# EAGLE library part MCV12 (library J-HDR3.5mm)
MCV1,5&12-G-3,5 [PHOENIX CONTACT,1843703] CONN HEADER SHROUDED 12POS 3.5MM MCVR1,5&12-ST-3,5 [PHOENIX CONTACT,1863259] CONN PLUG 12POS SCREW 3.5MM
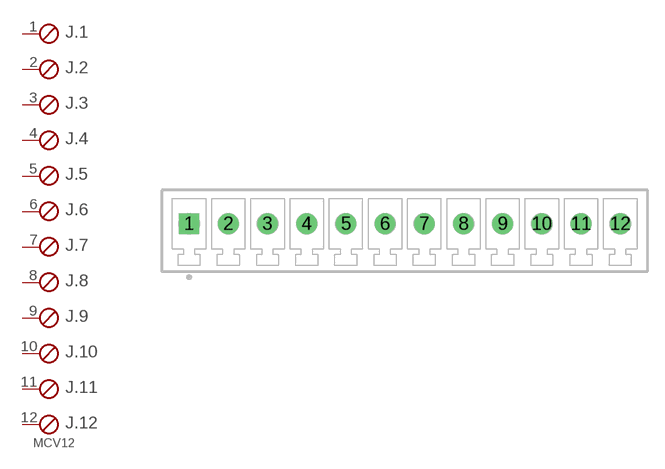
[diagram p1: symbol with the pads of MCV12; footprint MCV12]

Designator prefix J; gates .1=SKB .2=SKB .3=SKB .4=SKB .5=SKB .6=SKB .7=SKB .8=SKB .9=SKB .10=SKB .11=SKB .12=SKBV

## MCV12  [MCV12]
1  .1:1  pas
2  .2:1  pas
3  .3:1  pas
4  .4:1  pas
5  .5:1  pas
6  .6:1  pas
7  .7:1  pas
8  .8:1  pas
9  .9:1  pas
10  .10:1  pas
11  .11:1  pas
12  .12:1  pas

## Footprint MCV12 (pad centres in mm)
PHOENIX CONTACT 1843703 MCV 1,5/12-G-3,5 Drill Size 3/64": .0469" (1.2mm)
drill 1.2 square: 1 0,0
drill 1.2: 2 3.5,0; 3 7,0; 4 10.5,0; 5 14,0; 6 17.5,0; 7 21,0; 8 24.5,0; 9 28,0; 10 31.5,0; 11 35,0; 12 38.5,0